# Altium schematic symbol library NS4150.SchLib: 1 symbol
Pins are listed as number, name and electrical type; pins without a type are passive.

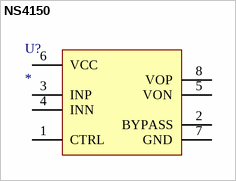
[diagram p0: symbol NS4150]

## NS4150
designator U?
Value: *
pins: 1 CTRL, 2 BYPASS, 3 INP, 4 INN, 5 VON, 6 VCC, 7 GND, 8 VOP